# Altium schematic symbol library fpc.SchLib: 2 symbols
Pins are listed as number, name and electrical type; pins without a type are passive.

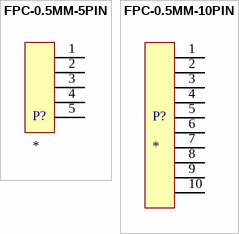
[diagram p0: symbols FPC-0.5MM-5PIN to FPC-0.5MM-10PIN]

## FPC-0.5MM-5PIN
designator P?
FPC-0.5MM-5PIN
pins: 1 (power), 2 (power), 3 (power), 4 (power), 5 (power)

## FPC-0.5MM-10PIN
designator P?
FPC-0.5MM-10PIN
pins: 1 (power), 2 (power), 3 (power), 4 (power), 5 (power), 6 (power), 7 (power), 8 (power), 9 (power), 10 (power)